# Altium schematic symbol library R 0603 1% YAGEO.SchLib: 250 symbols (part 2 of 3)
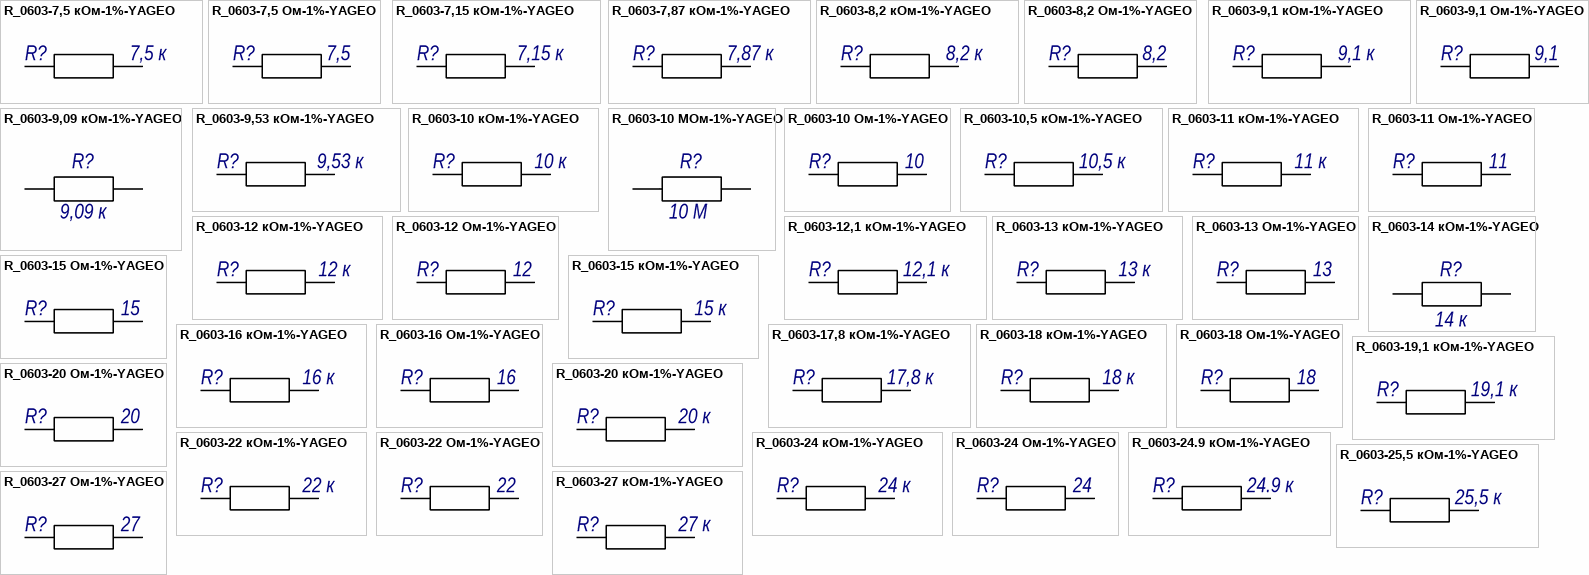
[diagram p7: symbols R_0603-7,5 кОм-1%-YAGEO to R_0603-27 Ом-1%-YAGEO]

## R_0603-27 Ом-1%-YAGEO
designator R?, comment value 27  (hidden comment: Резистор чип 0603-0,1 Вт-27 Ом ±1% фирма "YAGEO")
чип 0603-0,1 Вт-27 Ом ±1% фирма "YAGEO"; Power: 0,1 Вт; Tol: ± 1%; Manufacturer: фирма "YAGEO"; Name: Резистор; TYP: чип 0603; GOST: Резистор чип 0603-0,1 Вт-27 Ом ±1% фирма "YAGEO"
footprint R0603_H05M (Dim 1.6mm*0.8mm H=0.45mm)
pins: 1, 2
1 alternate drawing of the same symbol

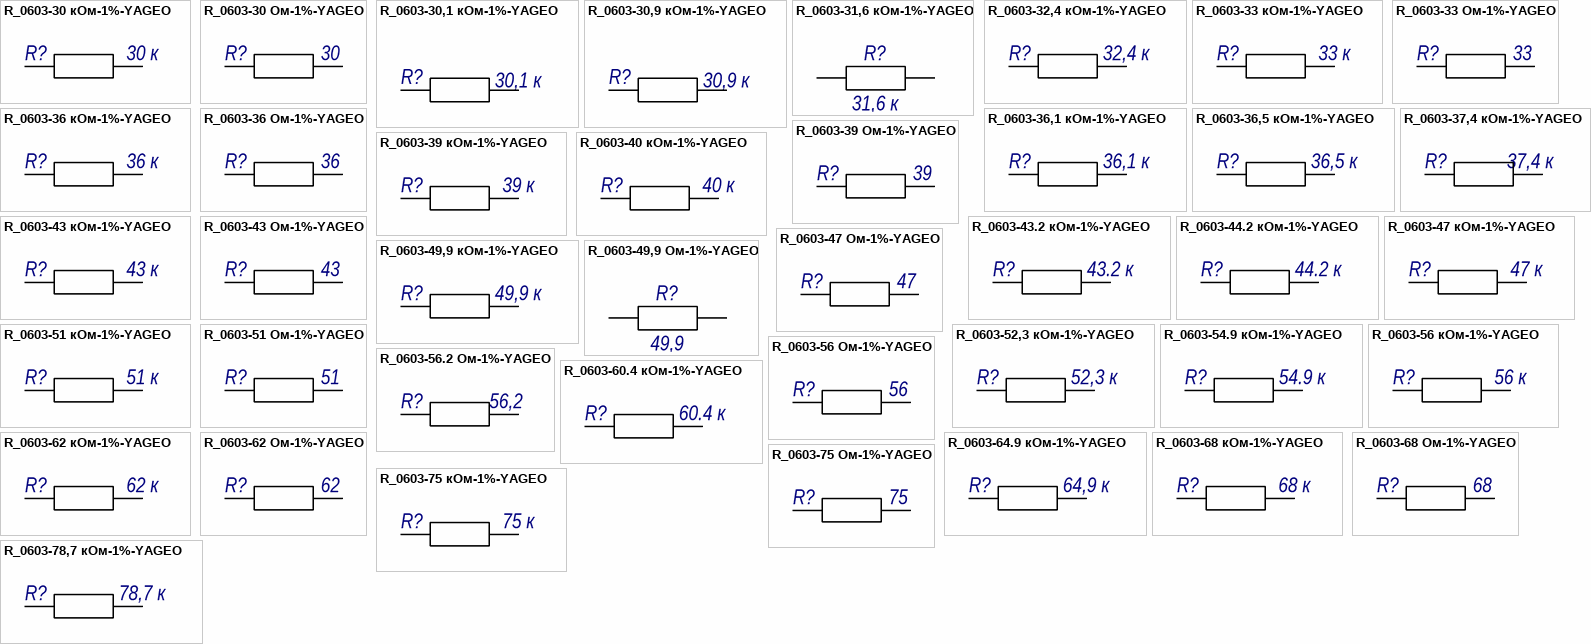
[diagram p3: symbols R_0603-30 кОм-1%-YAGEO to R_0603-78,7 кОм-1%-YAGEO]

## R_0603-30 кОм-1%-YAGEO
designator R?, comment value 30 к  (hidden comment: Резистор чип 0603-0,1 Вт-30 кОм ±1% фирма "YAGEO")
чип 0603-0,1 Вт-30 кОм ±1% фирма "YAGEO"; Power: 0,1 Вт; Tol: ± 1%; Manufacturer: фирма "YAGEO"; Name: Резистор; TYP: чип 0603; GOST: Резистор чип 0603-0,1 Вт-30 кОм ±1% фирма "YAGEO"
footprint R0603_H05M (Dim 1.6mm*0.8mm H=0.45mm)
pins: 1, 2
1 alternate drawing of the same symbol

## R_0603-30 Ом-1%-YAGEO
designator R?, comment value 30  (hidden comment: Резистор чип 0603-0,1 Вт-30 Ом ±1% фирма "YAGEO")
чип 0603-0,1 Вт-30 Ом ±1% фирма "YAGEO"; Power: 0,1 Вт; Tol: ± 1%; Manufacturer: фирма "YAGEO"; Name: Резистор; TYP: чип 0603; GOST: Резистор чип 0603-0,1 Вт-30 Ом ±1% фирма "YAGEO"
footprint R0603_H05M (Dim 1.6mm*0.8mm H=0.45mm)
pins: 1, 2
1 alternate drawing of the same symbol

## R_0603-30,1 кОм-1%-YAGEO
designator R?, comment value 30,1 к  (hidden comment: Резистор чип 0603-0,1 Вт-30,1 кОм ±1% фирма "YAGEO")
чип 0603-0,1 Вт-30,1 кОм ±1% фирма "YAGEO"; Power: 0,1 Вт; Tol: ± 1%; Manufacturer: фирма "YAGEO"; Name: Резистор; TYP: чип 0603; GOST: Резистор чип 0603-0,1 Вт-30,1 кОм ±1% фирма "YAGEO"
footprint R0603_H05M (Dim 1.6mm*0.8mm H=0.45mm)
pins: 1, 2
1 alternate drawing of the same symbol

## R_0603-30,9 кОм-1%-YAGEO
designator R?, comment value 30,9 к  (hidden comment: Резистор чип 0603-0,1 Вт-30,9 кОм ±1% фирма "YAGEO")
чип 0603-0,1 Вт-30,9 кОм ±1% фирма "YAGEO"; Power: 0,1 Вт; Tol: ± 1%; Manufacturer: фирма "YAGEO"; Name: Резистор; TYP: чип 0603; GOST: Резистор чип 0603-0,1 Вт-30,9 кОм ±1% фирма "YAGEO"
footprint R0603_H05M (Dim 1.6mm*0.8mm H=0.45mm)
pins: 1, 2
1 alternate drawing of the same symbol

## R_0603-31,6 кОм-1%-YAGEO
designator R?, comment value 31,6 к  (hidden comment: Резистор чип 0603-0,1 Вт-31,6 кОм ±1% фирма "YAGEO")
чип 0603-0,1 Вт-31,6 кОм ±1% фирма "YAGEO"; Power: 0,1 Вт; Tol: ± 1%; Manufacturer: фирма "YAGEO"; Name: Резистор; TYP: чип 0603; GOST: Резистор чип 0603-0,1 Вт-31,6 кОм ±1% фирма "YAGEO"
footprint R0603_H05M (Dim 1.6mm*0.8mm H=0.45mm)
pins: 1, 2
1 alternate drawing of the same symbol

## R_0603-32,4 кОм-1%-YAGEO
designator R?, comment value 32,4 к  (hidden comment: Резистор чип 0603-0,1 Вт-32,4 кОм ±1% фирма "YAGEO")
чип 0603-0,1 Вт-32,4 кОм ±1% фирма "YAGEO"; Power: 0,1 Вт; Tol: ± 1%; Manufacturer: фирма "YAGEO"; Name: Резистор; TYP: чип 0603; GOST: Резистор чип 0603-0,1 Вт-32,4 кОм ±1% фирма "YAGEO"
footprint R0603_H05M (Dim 1.6mm*0.8mm H=0.45mm)
pins: 1, 2
1 alternate drawing of the same symbol

## R_0603-33 кОм-1%-YAGEO
designator R?, comment value 33 к  (hidden comment: Резистор чип 0603-0,1 Вт-33 кОм ±1% фирма "YAGEO")
чип 0603-0,1 Вт-33 кОм ±1% фирма "YAGEO"; Power: 0,1 Вт; Tol: ± 1%; Manufacturer: фирма "YAGEO"; Name: Резистор; TYP: чип 0603; GOST: Резистор чип 0603-0,1 Вт-33 кОм ±1% фирма "YAGEO"
footprint R0603_H05M (Dim 1.6mm*0.8mm H=0.45mm)
pins: 1, 2
1 alternate drawing of the same symbol

## R_0603-33 Ом-1%-YAGEO
designator R?, comment value 33  (hidden comment: Резистор чип 0603-0,1 Вт-33 Ом ±1% фирма "YAGEO")
чип 0603-0,1 Вт-33 Ом ±1% фирма "YAGEO"; Power: 0,1 Вт; Tol: ± 1%; Manufacturer: фирма "YAGEO"; Name: Резистор; TYP: чип 0603; GOST: Резистор чип 0603-0,1 Вт-33 Ом ±1% фирма "YAGEO"
footprint R0603_H05M (Dim 1.6mm*0.8mm H=0.45mm)
pins: 1, 2
1 alternate drawing of the same symbol

## R_0603-36 кОм-1%-YAGEO
designator R?, comment value 36 к  (hidden comment: Резистор чип 0603-0,1 Вт-36 кОм ±1% фирма "YAGEO")
чип 0603-0,1 Вт-36 кОм ±1% фирма "YAGEO"; Power: 0,1 Вт; Tol: ± 1%; Manufacturer: фирма "YAGEO"; Name: Резистор; TYP: чип 0603; GOST: Резистор чип 0603-0,1 Вт-36 кОм ±1% фирма "YAGEO"
footprint R0603_H05M (Dim 1.6mm*0.8mm H=0.45mm)
pins: 1, 2
1 alternate drawing of the same symbol

## R_0603-36 Ом-1%-YAGEO
designator R?, comment value 36  (hidden comment: Резистор чип 0603-0,1 Вт-36 Ом ±1% фирма "YAGEO")
чип 0603-0,1 Вт-36 Ом ±1% фирма "YAGEO"; Power: 0,1 Вт; Tol: ± 1%; Manufacturer: фирма "YAGEO"; Name: Резистор; TYP: чип 0603; GOST: Резистор чип 0603-0,1 Вт-36 Ом ±1% фирма "YAGEO"
footprint R0603_H05M (Dim 1.6mm*0.8mm H=0.45mm)
pins: 1, 2
1 alternate drawing of the same symbol

## R_0603-36,1 кОм-1%-YAGEO
designator R?, comment value 36,1 к  (hidden comment: Резистор чип 0603-0,1 Вт-36,1 кОм ±1% фирма "YAGEO")
чип 0603-0,1 Вт-36,1 кОм ±1% фирма "YAGEO"; Power: 0,1 Вт; Tol: ± 1%; Manufacturer: фирма "YAGEO"; Name: Резистор; TYP: чип 0603; GOST: Резистор чип 0603-0,1 Вт-36,1 кОм ±1% фирма "YAGEO"
footprint R0603_H05M (Dim 1.6mm*0.8mm H=0.45mm)
pins: 1, 2
1 alternate drawing of the same symbol

## R_0603-36,5 кОм-1%-YAGEO
designator R?, comment value 36,5 к  (hidden comment: Резистор чип 0603-0,1 Вт-36,5 кОм ±1% фирма "YAGEO")
чип 0603-0,1 Вт-36,5 кОм ±1% фирма "YAGEO"; Power: 0,1 Вт; Tol: ± 1%; Manufacturer: фирма "YAGEO"; Name: Резистор; TYP: чип 0603; GOST: Резистор чип 0603-0,1 Вт-36,5 кОм ±1% фирма "YAGEO"
footprint R0603_H05M (Dim 1.6mm*0.8mm H=0.45mm)
pins: 1, 2
1 alternate drawing of the same symbol

## R_0603-37,4 кОм-1%-YAGEO
designator R?, comment value 37,4 к  (hidden comment: Резистор чип 0603-0,1 Вт-37,4 кОм ±1% фирма "YAGEO")
чип 0603-0,1 Вт-37,4 кОм ±1% фирма "YAGEO"; Power: 0,1 Вт; Tol: ± 1%; Manufacturer: фирма "YAGEO"; Name: Резистор; TYP: чип 0603; GOST: Резистор чип 0603-0,1 Вт-37,4 кОм ±1% фирма "YAGEO"
footprint R0603_H05M (Dim 1.6mm*0.8mm H=0.45mm)
pins: 1, 2
1 alternate drawing of the same symbol

## R_0603-39 кОм-1%-YAGEO
designator R?, comment value 39 к  (hidden comment: Резистор чип 0603-0,1 Вт-39 кОм ±1% фирма "YAGEO")
чип 0603-0,1 Вт-39 кОм ±1% фирма "YAGEO"; Power: 0,1 Вт; Tol: ± 1%; Manufacturer: фирма "YAGEO"; Name: Резистор; TYP: чип 0603; GOST: Резистор чип 0603-0,1 Вт-39 кОм ±1% фирма "YAGEO"
footprint R0603_H05M (Dim 1.6mm*0.8mm H=0.45mm)
pins: 1, 2
1 alternate drawing of the same symbol

## R_0603-39 Ом-1%-YAGEO
designator R?, comment value 39  (hidden comment: Резистор чип 0603-0,1 Вт-39 Ом ±1% фирма "YAGEO")
чип 0603-0,1 Вт-39 Ом ±1% фирма "YAGEO"; Power: 0,1 Вт; Tol: ± 1%; Manufacturer: фирма "YAGEO"; Name: Резистор; TYP: чип 0603; GOST: Резистор чип 0603-0,1 Вт-39 Ом ±1% фирма "YAGEO"
footprint R0603_H05M (Dim 1.6mm*0.8mm H=0.45mm)
pins: 1, 2
1 alternate drawing of the same symbol

## R_0603-40 кОм-1%-YAGEO
designator R?, comment value 40 к  (hidden comment: Резистор чип 0603-0,1 Вт-40 кОм ±1% фирма "YAGEO")
чип 0603-0,1 Вт-40 кОм ±1% фирма "YAGEO"; Power: 0,1 Вт; Tol: ± 1%; Manufacturer: фирма "YAGEO"; Name: Резистор; TYP: чип 0603; GOST: Резистор чип 0603-0,1 Вт-40 кОм ±1% фирма "YAGEO"
footprint R0603_H05M (Dim 1.6mm*0.8mm H=0.45mm)
pins: 1, 2
1 alternate drawing of the same symbol

## R_0603-43 кОм-1%-YAGEO
designator R?, comment value 43 к  (hidden comment: Резистор чип 0603-0,1 Вт-43 кОм ±1% фирма "YAGEO")
чип 0603-0,1 Вт-43 кОм ±1% фирма "YAGEO"; Power: 0,1 Вт; Tol: ± 1%; Manufacturer: фирма "YAGEO"; Name: Резистор; TYP: чип 0603; GOST: Резистор чип 0603-0,1 Вт-43 кОм ±1% фирма "YAGEO"
footprint R0603_H05M (Dim 1.6mm*0.8mm H=0.45mm)
pins: 1, 2
1 alternate drawing of the same symbol

## R_0603-43 Ом-1%-YAGEO
designator R?, comment value 43  (hidden comment: Резистор чип 0603-0,1 Вт-43 Ом ±1% фирма "YAGEO")
чип 0603-0,1 Вт-43 Ом ±1% фирма "YAGEO"; Power: 0,1 Вт; Tol: ± 1%; Manufacturer: фирма "YAGEO"; Name: Резистор; TYP: чип 0603; GOST: Резистор чип 0603-0,1 Вт-43 Ом ±1% фирма "YAGEO"
footprint R0603_H05M (Dim 1.6mm*0.8mm H=0.45mm)
pins: 1, 2
1 alternate drawing of the same symbol

## R_0603-43.2 кОм-1%-YAGEO
designator R?, comment value 43.2 к  (hidden comment: Резистор чип 0603-0,1 Вт-43.2 кОм ±1% фирма "YAGEO")
чип 0603-0,1 Вт-43.2 кОм ±1% фирма "YAGEO"; Power: 0,1 Вт; Tol: ± 1%; Manufacturer: фирма "YAGEO"; Name: Резистор; TYP: чип 0603; GOST: Резистор чип 0603-0,1 Вт-43.2 кОм ±1% фирма "YAGEO"
footprint R0603_H05M (Dim 1.6mm*0.8mm H=0.45mm)
pins: 1, 2
1 alternate drawing of the same symbol

## R_0603-44.2 кОм-1%-YAGEO
designator R?, comment value 44.2 к  (hidden comment: Резистор чип 0603-0,1 Вт-44.2 кОм ±1% фирма "YAGEO")
чип 0603-0,1 Вт-44.2 кОм ±1% фирма "YAGEO"; Power: 0,1 Вт; Tol: ± 1%; Manufacturer: фирма "YAGEO"; Name: Резистор; TYP: чип 0603; GOST: Резистор чип 0603-0,1 Вт-44.2 кОм ±1% фирма "YAGEO"
footprint R0603_H05M (Dim 1.6mm*0.8mm H=0.45mm)
pins: 1, 2
1 alternate drawing of the same symbol

## R_0603-47 кОм-1%-YAGEO
designator R?, comment value 47 к  (hidden comment: Резистор чип 0603-0,1 Вт-47 кОм ±1% фирма "YAGEO")
чип 0603-0,1 Вт-47 кОм ±1% фирма "YAGEO"; Power: 0,1 Вт; Tol: ± 1%; Manufacturer: фирма "YAGEO"; Name: Резистор; TYP: чип 0603; GOST: Резистор чип 0603-0,1 Вт-47 кОм ±1% фирма "YAGEO"
footprint R0603_H05M (Dim 1.6mm*0.8mm H=0.45mm)
pins: 1, 2
1 alternate drawing of the same symbol

## R_0603-47 Ом-1%-YAGEO
designator R?, comment value 47  (hidden comment: Резистор чип 0603-0,1 Вт-47 Ом ±1% фирма "YAGEO")
чип 0603-0,1 Вт-47 Ом ±1% фирма "YAGEO"; Power: 0,1 Вт; Tol: ± 1%; Manufacturer: фирма "YAGEO"; Name: Резистор; TYP: чип 0603; GOST: Резистор чип 0603-0,1 Вт-47 Ом ±1% фирма "YAGEO"
footprint R0603_H05M (Dim 1.6mm*0.8mm H=0.45mm)
pins: 1, 2
1 alternate drawing of the same symbol

## R_0603-49,9 кОм-1%-YAGEO
designator R?, comment value 49,9 к  (hidden comment: Резистор чип 0603-0,1 Вт-49,9 кОм ±1% фирма "YAGEO")
чип 0603-0,1 Вт-49,9 кОм ±1% фирма "YAGEO"; Power: 0,1 Вт; Tol: ± 1%; Manufacturer: фирма "YAGEO"; Name: Резистор; TYP: чип 0603; GOST: Резистор чип 0603-0,1 Вт-49,9 кОм ±1% фирма "YAGEO"
footprint R0603_H05M (Dim 1.6mm*0.8mm H=0.45mm)
pins: 1, 2
1 alternate drawing of the same symbol

## R_0603-49,9 Ом-1%-YAGEO
designator R?, comment value 49,9  (hidden comment: Резистор чип 0603-0,1 Вт-49,9 Ом ±1% фирма "YAGEO")
чип 0603-0,1 Вт-49,9 Ом ±1% фирма "YAGEO"; Power: 0,1 Вт; Tol: ± 1%; Manufacturer: фирма "YAGEO"; Name: Резистор; TYP: чип 0603; GOST: Резистор чип 0603-0,1 Вт-49,9 Ом ±1% фирма "YAGEO"
footprint R0603_H05M (Dim 1.6mm*0.8mm H=0.45mm)
pins: 1, 2
1 alternate drawing of the same symbol

## R_0603-51 кОм-1%-YAGEO
designator R?, comment value 51 к  (hidden comment: Резистор чип 0603-0,1 Вт-51 кОм ±1% фирма "YAGEO")
чип 0603-0,1 Вт-51 кОм ±1% фирма "YAGEO"; Power: 0,1 Вт; Tol: ± 1%; Manufacturer: фирма "YAGEO"; Name: Резистор; TYP: чип 0603; GOST: Резистор чип 0603-0,1 Вт-51 кОм ±1% фирма "YAGEO"
footprint R0603_H05M (Dim 1.6mm*0.8mm H=0.45mm)
pins: 1, 2
1 alternate drawing of the same symbol

## R_0603-51 Ом-1%-YAGEO
designator R?, comment value 51  (hidden comment: Резистор чип 0603-0,1 Вт-51 Ом ±1% фирма "YAGEO")
чип 0603-0,1 Вт-51 Ом ±1% фирма "YAGEO"; Power: 0,1 Вт; Tol: ± 1%; Manufacturer: фирма "YAGEO"; Name: Резистор; TYP: чип 0603; GOST: Резистор чип 0603-0,1 Вт-51 Ом ±1% фирма "YAGEO"
footprint R0603_H05M (Dim 1.6mm*0.8mm H=0.45mm)
pins: 1, 2
1 alternate drawing of the same symbol

## R_0603-52,3 кОм-1%-YAGEO
designator R?, comment value 52,3 к  (hidden comment: Резистор чип 0603-0,1 Вт-52,3 кОм ±1% фирма "YAGEO")
чип 0603-0,1 Вт-52,3 кОм ±1% фирма "YAGEO"; Power: 0,1 Вт; Tol: ± 1%; Manufacturer: фирма "YAGEO"; Name: Резистор; TYP: чип 0603; GOST: Резистор чип 0603-0,1 Вт-52,3 кОм ±1% фирма "YAGEO"
footprint R0603_H05M (Dim 1.6mm*0.8mm H=0.45mm)
pins: 1, 2
1 alternate drawing of the same symbol

## R_0603-54.9 кОм-1%-YAGEO
designator R?, comment value 54.9 к  (hidden comment: Резистор чип 0603-0,1 Вт-54.9 кОм ±1% фирма "YAGEO")
чип 0603-0,1 Вт-54.9 кОм ±1% фирма "YAGEO"; Power: 0,1 Вт; Tol: ± 1%; Manufacturer: фирма "YAGEO"; Name: Резистор; TYP: чип 0603; GOST: Резистор чип 0603-0,1 Вт-54.9 кОм ±1% фирма "YAGEO"
footprint R0603_H05M (Dim 1.6mm*0.8mm H=0.45mm)
pins: 1, 2
1 alternate drawing of the same symbol

## R_0603-56 кОм-1%-YAGEO
designator R?, comment value 56 к  (hidden comment: Резистор чип 0603-0,1 Вт-56 кОм ±1% фирма "YAGEO")
чип 0603-0,1 Вт-56 кОм ±1% фирма "YAGEO"; Power: 0,1 Вт; Tol: ± 1%; Manufacturer: фирма "YAGEO"; Name: Резистор; TYP: чип 0603; GOST: Резистор чип 0603-0,1 Вт-56 кОм ±1% фирма "YAGEO"
footprint R0603_H05M (Dim 1.6mm*0.8mm H=0.45mm)
pins: 1, 2
1 alternate drawing of the same symbol

## R_0603-56 Ом-1%-YAGEO
designator R?, comment value 56  (hidden comment: Резистор чип 0603-0,1 Вт-56 Ом ±1% фирма "YAGEO")
чип 0603-0,1 Вт-56 Ом ±1% фирма "YAGEO"; Power: 0,1 Вт; Tol: ± 1%; Manufacturer: фирма "YAGEO"; Name: Резистор; TYP: чип 0603; GOST: Резистор чип 0603-0,1 Вт-56 Ом ±1% фирма "YAGEO"
footprint R0603_H05M (Dim 1.6mm*0.8mm H=0.45mm)
pins: 1, 2
1 alternate drawing of the same symbol

## R_0603-56.2 Ом-1%-YAGEO
designator R?, comment value 56,2  (hidden comment: Резистор чип 0603-0,1 Вт-56,2 Ом ±1% фирма "YAGEO")
чип 0603-0,1 Вт-56.2 Ом ±1% фирма "YAGEO"; Power: 0,1 Вт; Tol: ± 1%; Manufacturer: фирма "YAGEO"; Name: Резистор; TYP: чип 0603; GOST: Резистор чип 0603-0,1 Вт-56,2 Ом ±1% фирма "YAGEO"
footprint R0603_H05M (Dim 1.6mm*0.8mm H=0.45mm)
pins: 1, 2
1 alternate drawing of the same symbol

## R_0603-60.4 кОм-1%-YAGEO
designator R?, comment value 60.4 к  (hidden comment: Резистор чип 0603-0,1 Вт-60.4 кОм ±1% фирма "YAGEO")
чип 0603-0,1 Вт-60.4 кОм ±1% фирма "YAGEO"; Power: 0,1 Вт; Tol: ± 1%; Manufacturer: фирма "YAGEO"; Name: Резистор; TYP: чип 0603; GOST: Резистор чип 0603-0,1 Вт-60.4 кОм ±1% фирма "YAGEO"
footprint R0603_H05M (Dim 1.6mm*0.8mm H=0.45mm)
pins: 1, 2
1 alternate drawing of the same symbol

## R_0603-62 кОм-1%-YAGEO
designator R?, comment value 62 к  (hidden comment: Резистор чип 0603-0,1 Вт-62 кОм ±1% фирма "YAGEO")
чип 0603-0,1 Вт-62 кОм ±1% фирма "YAGEO"; Power: 0,1 Вт; Tol: ± 1%; Manufacturer: фирма "YAGEO"; Name: Резистор; TYP: чип 0603; GOST: Резистор чип 0603-0,1 Вт-62 кОм ±1% фирма "YAGEO"
footprint R0603_H05M (Dim 1.6mm*0.8mm H=0.45mm)
pins: 1, 2
1 alternate drawing of the same symbol

## R_0603-62 Ом-1%-YAGEO
designator R?, comment value 62  (hidden comment: Резистор чип 0603-0,1 Вт-62 Ом ±1% фирма "YAGEO")
чип 0603-0,1 Вт-62 Ом ±1% фирма "YAGEO"; Power: 0,1 Вт; Tol: ± 1%; Manufacturer: фирма "YAGEO"; Name: Резистор; TYP: чип 0603; GOST: Резистор чип 0603-0,1 Вт-62 Ом ±1% фирма "YAGEO"
footprint R0603_H05M (Dim 1.6mm*0.8mm H=0.45mm)
pins: 1, 2
1 alternate drawing of the same symbol

## R_0603-64.9 кОм-1%-YAGEO
designator R?, comment value 64,9 к  (hidden comment: Резистор чип 0603-0,1 Вт-64.9 кОм ±1% фирма "YAGEO")
чип 0603-0,1 Вт-64.9 кОм ±1% фирма "YAGEO"; Power: 0,1 Вт; Tol: ± 1%; Manufacturer: фирма "YAGEO"; Name: Резистор; TYP: чип 0603; GOST: Резистор чип 0603-0,1 Вт-64.9 кОм ±1% фирма "YAGEO"
footprint R0603_H05M (Dim 1.6mm*0.8mm H=0.45mm)
pins: 1, 2
1 alternate drawing of the same symbol

## R_0603-68 кОм-1%-YAGEO
designator R?, comment value 68 к  (hidden comment: Резистор чип 0603-0,1 Вт-68 кОм ±1% фирма "YAGEO")
чип 0603-0,1 Вт-68 кОм ±1% фирма "YAGEO"; Power: 0,1 Вт; Tol: ± 1%; Manufacturer: фирма "YAGEO"; Name: Резистор; TYP: чип 0603; GOST: Резистор чип 0603-0,1 Вт-68 кОм ±1% фирма "YAGEO"
footprint R0603_H05M (Dim 1.6mm*0.8mm H=0.45mm)
pins: 1, 2
1 alternate drawing of the same symbol

## R_0603-68 Ом-1%-YAGEO
designator R?, comment value 68  (hidden comment: Резистор чип 0603-0,1 Вт-68 Ом ±1% фирма "YAGEO")
чип 0603-0,1 Вт-68 Ом ±1% фирма "YAGEO"; Power: 0,1 Вт; Tol: ± 1%; Manufacturer: фирма "YAGEO"; Name: Резистор; TYP: чип 0603; GOST: Резистор чип 0603-0,1 Вт-68 Ом ±1% фирма "YAGEO"
footprint R0603_H05M (Dim 1.6mm*0.8mm H=0.45mm)
pins: 1, 2
1 alternate drawing of the same symbol

## R_0603-75 кОм-1%-YAGEO
designator R?, comment value 75 к  (hidden comment: Резистор чип 0603-0,1 Вт-75 кОм ±1% фирма "YAGEO")
чип 0603-0,1 Вт-75 кОм ±1% фирма "YAGEO"; Power: 0,1 Вт; Tol: ± 1%; Manufacturer: фирма "YAGEO"; Name: Резистор; TYP: чип 0603; GOST: Резистор чип 0603-0,1 Вт-75 кОм ±1% фирма "YAGEO"
footprint R0603_H05M (Dim 1.6mm*0.8mm H=0.45mm)
pins: 1, 2
1 alternate drawing of the same symbol

## R_0603-75 Ом-1%-YAGEO
designator R?, comment value 75  (hidden comment: Резистор чип 0603-0,1 Вт-75 Ом ±1% фирма "YAGEO")
чип 0603-0,1 Вт-75 Ом ±1% фирма "YAGEO"; Power: 0,1 Вт; Tol: ± 1%; Manufacturer: фирма "YAGEO"; Name: Резистор; TYP: чип 0603; GOST: Резистор чип 0603-0,1 Вт-75 Ом ±1% фирма "YAGEO"
footprint R0603_H05M (Dim 1.6mm*0.8mm H=0.45mm)
pins: 1, 2
1 alternate drawing of the same symbol

## R_0603-78,7 кОм-1%-YAGEO
designator R?, comment value 78,7 к  (hidden comment: Резистор чип 0603-0,1 Вт-78,7 кОм ±1% фирма "YAGEO")
чип 0603-0,1 Вт-78,7 кОм ±1% фирма "YAGEO"; Power: 0,1 Вт; Tol: ± 1%; Manufacturer: фирма "YAGEO"; Name: Резистор; TYP: чип 0603; GOST: Резистор чип 0603-0,1 Вт-78,7 кОм ±1% фирма "YAGEO"
footprint R0603_H05M (Dim 1.6mm*0.8mm H=0.45mm)
pins: 1, 2
1 alternate drawing of the same symbol

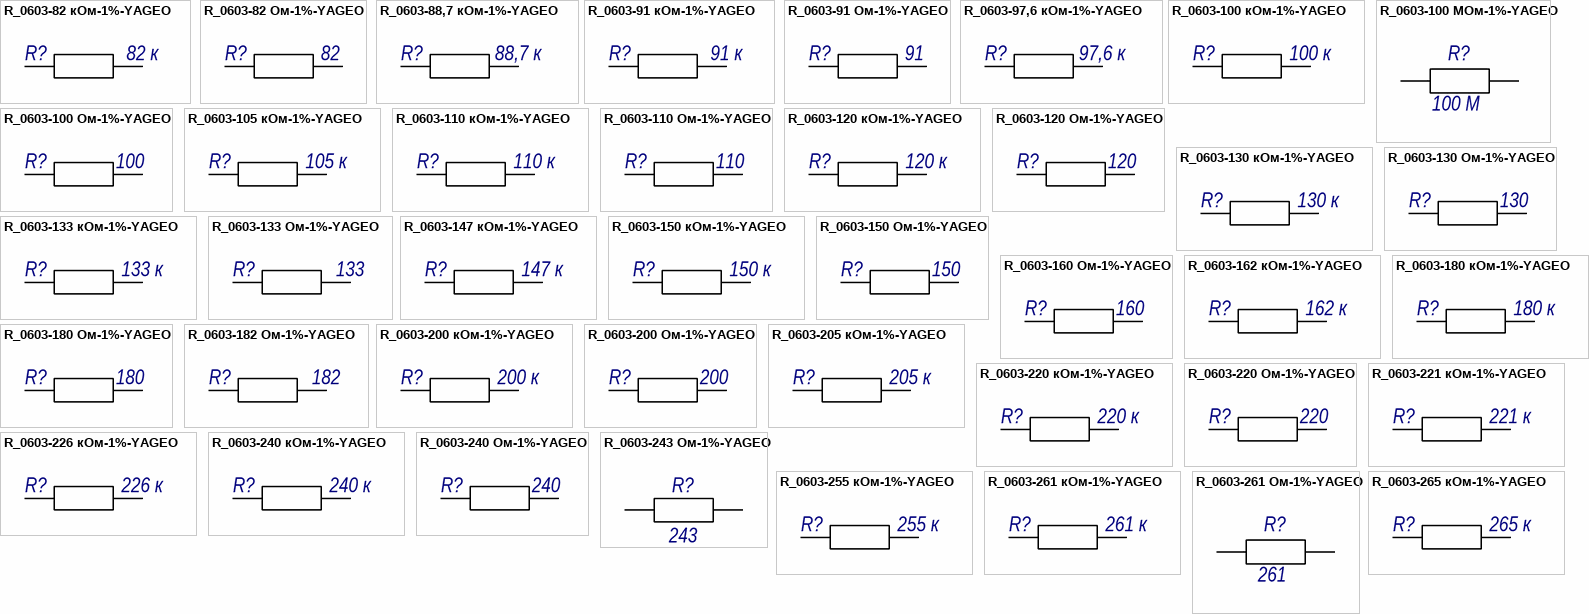
[diagram p4: symbols R_0603-82 кОм-1%-YAGEO to R_0603-265 кОм-1%-YAGEO]

## R_0603-82 кОм-1%-YAGEO
designator R?, comment value 82 к  (hidden comment: Резистор чип 0603-0,1 Вт-82 кОм ±1% фирма "YAGEO")
чип 0603-0,1 Вт-82 кОм ±1% фирма "YAGEO"; Power: 0,1 Вт; Tol: ± 1%; Manufacturer: фирма "YAGEO"; Name: Резистор; TYP: чип 0603; GOST: Резистор чип 0603-0,1 Вт-82 кОм ±1% фирма "YAGEO"
footprint R0603_H05M (Dim 1.6mm*0.8mm H=0.45mm)
pins: 1, 2
1 alternate drawing of the same symbol

## R_0603-82 Ом-1%-YAGEO
designator R?, comment value 82  (hidden comment: Резистор чип 0603-0,1 Вт-82 Ом ±1% фирма "YAGEO")
чип 0603-0,1 Вт-82 Ом ±1% фирма "YAGEO"; Power: 0,1 Вт; Tol: ± 1%; Manufacturer: фирма "YAGEO"; Name: Резистор; TYP: чип 0603; GOST: Резистор чип 0603-0,1 Вт-82 Ом ±1% фирма "YAGEO"
footprint R0603_H05M (Dim 1.6mm*0.8mm H=0.45mm)
pins: 1, 2
1 alternate drawing of the same symbol

## R_0603-88,7 кОм-1%-YAGEO
designator R?, comment value 88,7 к  (hidden comment: Резистор чип 0603-0,1 Вт-88,7 кОм ±1% фирма "YAGEO")
чип 0603-0,1 Вт-88,7 кОм ±1% фирма "YAGEO"; Power: 0,1 Вт; Tol: ± 1%; Manufacturer: фирма "YAGEO"; Name: Резистор; TYP: чип 0603; GOST: Резистор чип 0603-0,1 Вт-88,7 кОм ±1% фирма "YAGEO"
footprint R0603_H05M (Dim 1.6mm*0.8mm H=0.45mm)
pins: 1, 2
1 alternate drawing of the same symbol

## R_0603-91 кОм-1%-YAGEO
designator R?, comment value 91 к  (hidden comment: Резистор чип 0603-0,1 Вт-91 кОм ±1% фирма "YAGEO")
чип 0603-0,1 Вт-91 кОм ±1% фирма "YAGEO"; Power: 0,1 Вт; Tol: ± 1%; Manufacturer: фирма "YAGEO"; Name: Резистор; TYP: чип 0603; GOST: Резистор чип 0603-0,1 Вт-91 кОм ±1% фирма "YAGEO"
footprint R0603_H05M (Dim 1.6mm*0.8mm H=0.45mm)
pins: 1, 2
1 alternate drawing of the same symbol

## R_0603-91 Ом-1%-YAGEO
designator R?, comment value 91  (hidden comment: Резистор чип 0603-0,1 Вт-91 Ом ±1% фирма "YAGEO")
чип 0603-0,1 Вт-91 Ом ±1% фирма "YAGEO"; Power: 0,1 Вт; Tol: ± 1%; Manufacturer: фирма "YAGEO"; Name: Резистор; TYP: чип 0603; GOST: Резистор чип 0603-0,1 Вт-91 Ом ±1% фирма "YAGEO"
footprint R0603_H05M (Dim 1.6mm*0.8mm H=0.45mm)
pins: 1, 2
1 alternate drawing of the same symbol

## R_0603-97,6 кОм-1%-YAGEO
designator R?, comment value 97,6 к  (hidden comment: Резистор чип 0603-0,1 Вт-97,6 кОм ±1% фирма "YAGEO")
чип 0603-0,1 Вт-97,6 кОм ±1% фирма "YAGEO"; Power: 0,1 Вт; Tol: ± 1%; Manufacturer: фирма "YAGEO"; Name: Резистор; TYP: чип 0603; GOST: Резистор чип 0603-0,1 Вт-97,6 кОм ±1% фирма "YAGEO"
footprint R0603_H05M (Dim 1.6mm*0.8mm H=0.45mm)
pins: 1, 2
1 alternate drawing of the same symbol

## R_0603-100 кОм-1%-YAGEO
designator R?, comment value 100 к  (hidden comment: Резистор чип 0603-0,1 Вт-100 кОм ±1% фирма "YAGEO")
чип 0603-0,1 Вт-100 кОм ±1% фирма "YAGEO"; Power: 0,1 Вт; Tol: ± 1%; Manufacturer: фирма "YAGEO"; Name: Резистор; TYP: чип 0603; GOST: Резистор чип 0603-0,1 Вт-100 кОм ±1% фирма "YAGEO"
footprint R0603_H05M (Dim 1.6mm*0.8mm H=0.45mm)
pins: 1, 2
1 alternate drawing of the same symbol

## R_0603-100 МОм-1%-YAGEO
designator R?, comment value 100 М  (hidden comment: Резистор чип 0603-0,1 Вт-100 МОм ±1% фирма "YAGEO")
чип 0603-0,1 Вт-100 МОм ±1% фирма "YAGEO"; Power: 0,1 Вт; Tol: ± 1%; Manufacturer: фирма "YAGEO"; Name: Резистор; TYP: чип 0603; GOST: Резистор чип 0603-0,1 Вт-100 МОм ±1% фирма "YAGEO"
footprint R0603_H05M (Dim 1.6mm*0.8mm H=0.45mm)
pins: 1, 2
1 alternate drawing of the same symbol

## R_0603-100 Ом-1%-YAGEO
designator R?, comment value 100  (hidden comment: Резистор чип 0603-0,1 Вт-100 Ом ±1% фирма "YAGEO")
чип 0603-0,1 Вт-100 Ом ±1% фирма "YAGEO"; Power: 0,1 Вт; Tol: ± 1%; Manufacturer: фирма "YAGEO"; Name: Резистор; TYP: чип 0603; GOST: Резистор чип 0603-0,1 Вт-100 Ом ±1% фирма "YAGEO"
footprint R0603_H05M (Dim 1.6mm*0.8mm H=0.45mm)
pins: 1, 2
1 alternate drawing of the same symbol

## R_0603-105 кОм-1%-YAGEO
designator R?, comment value 105 к  (hidden comment: Резистор чип 0603-0,1 Вт-105 кОм ±1% фирма "YAGEO")
чип 0603-0,1 Вт-105 кОм ±1% фирма "YAGEO"; Power: 0,1 Вт; Tol: ± 1%; Manufacturer: фирма "YAGEO"; Name: Резистор; TYP: чип 0603; GOST: Резистор чип 0603-0,1 Вт-105 кОм ±1% фирма "YAGEO"
footprint R0603_H05M (Dim 1.6mm*0.8mm H=0.45mm)
pins: 1, 2
1 alternate drawing of the same symbol

## R_0603-110 кОм-1%-YAGEO
designator R?, comment value 110 к  (hidden comment: Резистор чип 0603-0,1 Вт-110 кОм ±1% фирма "YAGEO")
чип 0603-0,1 Вт-110 кОм ±1% фирма "YAGEO"; Power: 0,1 Вт; Tol: ± 1%; Manufacturer: фирма "YAGEO"; Name: Резистор; TYP: чип 0603; GOST: Резистор чип 0603-0,1 Вт-110 кОм ±1% фирма "YAGEO"
footprint R0603_H05M (Dim 1.6mm*0.8mm H=0.45mm)
pins: 1, 2
1 alternate drawing of the same symbol

## R_0603-110 Ом-1%-YAGEO
designator R?, comment value 110  (hidden comment: Резистор чип 0603-0,1 Вт-110 Ом ±1% фирма "YAGEO")
чип 0603-0,1 Вт-110 Ом ±1% фирма "YAGEO"; Power: 0,1 Вт; Tol: ± 1%; Manufacturer: фирма "YAGEO"; Name: Резистор; TYP: чип 0603; GOST: Резистор чип 0603-0,1 Вт-110 Ом ±1% фирма "YAGEO"
footprint R0603_H05M (Dim 1.6mm*0.8mm H=0.45mm)
pins: 1, 2
1 alternate drawing of the same symbol

## R_0603-120 кОм-1%-YAGEO
designator R?, comment value 120 к  (hidden comment: Резистор чип 0603-0,1 Вт-120 кОм ±1% фирма "YAGEO")
чип 0603-0,1 Вт-120 кОм ±1% фирма "YAGEO"; Power: 0,1 Вт; Tol: ± 1%; Manufacturer: фирма "YAGEO"; Name: Резистор; TYP: чип 0603; GOST: Резистор чип 0603-0,1 Вт-120 кОм ±1% фирма "YAGEO"
footprint R0603_H05M (Dim 1.6mm*0.8mm H=0.45mm)
pins: 1, 2
1 alternate drawing of the same symbol

## R_0603-120 Ом-1%-YAGEO
designator R?, comment value 120  (hidden comment: Резистор чип 0603-0,1 Вт-120 Ом ±1% фирма "YAGEO")
чип 0603-0,1 Вт-120 Ом ±1% фирма "YAGEO"; Power: 0,1 Вт; Tol: ± 1%; Manufacturer: фирма "YAGEO"; Name: Резистор; TYP: чип 0603; GOST: Резистор чип 0603-0,1 Вт-120 Ом ±1% фирма "YAGEO"
footprint R0603_H05M (Dim 1.6mm*0.8mm H=0.45mm)
pins: 1, 2
1 alternate drawing of the same symbol

## R_0603-130 кОм-1%-YAGEO
designator R?, comment value 130 к  (hidden comment: Резистор чип 0603-0,1 Вт-130 кОм ±1% фирма "YAGEO")
чип 0603-0,1 Вт-130 кОм ±1% фирма "YAGEO"; Power: 0,1 Вт; Tol: ± 1%; Manufacturer: фирма "YAGEO"; Name: Резистор; TYP: чип 0603; GOST: Резистор чип 0603-0,1 Вт-130 кОм ±1% фирма "YAGEO"
footprint R0603_H05M (Dim 1.6mm*0.8mm H=0.45mm)
pins: 1, 2
1 alternate drawing of the same symbol

## R_0603-130 Ом-1%-YAGEO
designator R?, comment value 130  (hidden comment: Резистор чип 0603-0,1 Вт-130 Ом ±1% фирма "YAGEO")
чип 0603-0,1 Вт-130 Ом ±1% фирма "YAGEO"; Power: 0,1 Вт; Tol: ± 1%; Manufacturer: фирма "YAGEO"; Name: Резистор; TYP: чип 0603; GOST: Резистор чип 0603-0,1 Вт-130 Ом ±1% фирма "YAGEO"
footprint R0603_H05M (Dim 1.6mm*0.8mm H=0.45mm)
pins: 1, 2
1 alternate drawing of the same symbol

## R_0603-133 кОм-1%-YAGEO
designator R?, comment value 133 к  (hidden comment: Резистор чип 0603-0,1 Вт-133 кОм ±1% фирма "YAGEO")
чип 0603-0,1 Вт-133 кОм ±1% фирма "YAGEO"; Power: 0,1 Вт; Tol: ± 1%; Manufacturer: фирма "YAGEO"; Name: Резистор; TYP: чип 0603; GOST: Резистор чип 0603-0,1 Вт-133 кОм ±1% фирма "YAGEO"
footprint R0603_H05M (Dim 1.6mm*0.8mm H=0.45mm)
pins: 1, 2
1 alternate drawing of the same symbol

## R_0603-133 Ом-1%-YAGEO
designator R?, comment value 133  (hidden comment: Резистор чип 0603-0,1 Вт-133 Ом ±1% фирма "YAGEO")
чип 0603-0,1 Вт-133 Ом ±1% фирма "YAGEO"; Power: 0,1 Вт; Tol: ± 1%; Manufacturer: фирма "YAGEO"; Name: Резистор; TYP: чип 0603; GOST: Резистор чип 0603-0,1 Вт-133 Ом ±1% фирма "YAGEO"
footprint R0603_H05M (Dim 1.6mm*0.8mm H=0.45mm)
pins: 1, 2
1 alternate drawing of the same symbol

## R_0603-147 кОм-1%-YAGEO
designator R?, comment value 147 к  (hidden comment: Резистор чип 0603-0,1 Вт-147 кОм ±1% фирма "YAGEO")
чип 0603-0,1 Вт-147 кОм ±1% фирма "YAGEO"; Power: 0,1 Вт; Tol: ± 1%; Manufacturer: фирма "YAGEO"; Name: Резистор; TYP: чип 0603; GOST: Резистор чип 0603-0,1 Вт-147 кОм ±1% фирма "YAGEO"
footprint R0603_H05M (Dim 1.6mm*0.8mm H=0.45mm)
pins: 1, 2
1 alternate drawing of the same symbol

## R_0603-150 кОм-1%-YAGEO
designator R?, comment value 150 к  (hidden comment: Резистор чип 0603-0,1 Вт-150 кОм ±1% фирма "YAGEO")
чип 0603-0,1 Вт-150 кОм ±1% фирма "YAGEO"; Power: 0,1 Вт; Tol: ± 1%; Manufacturer: фирма "YAGEO"; Name: Резистор; TYP: чип 0603; GOST: Резистор чип 0603-0,1 Вт-150 кОм ±1% фирма "YAGEO"
footprint R0603_H05M (Dim 1.6mm*0.8mm H=0.45mm)
pins: 1, 2
1 alternate drawing of the same symbol

## R_0603-150 Ом-1%-YAGEO
designator R?, comment value 150  (hidden comment: Резистор чип 0603-0,1 Вт-150 Ом ±1% фирма "YAGEO")
чип 0603-0,1 Вт-150 Ом ±1% фирма "YAGEO"; Power: 0,1 Вт; Tol: ± 1%; Manufacturer: фирма "YAGEO"; Name: Резистор; TYP: чип 0603; GOST: Резистор чип 0603-0,1 Вт-150 Ом ±1% фирма "YAGEO"
footprint R0603_H05M (Dim 1.6mm*0.8mm H=0.45mm)
pins: 1, 2
1 alternate drawing of the same symbol

## R_0603-160 Ом-1%-YAGEO
designator R?, comment value 160  (hidden comment: Резистор чип 0603-0,1 Вт-160 Ом ±1% фирма "YAGEO")
чип 0603-0,1 Вт-160 Ом ±1% фирма "YAGEO"; Power: 0,1 Вт; Tol: ± 1%; Manufacturer: фирма "YAGEO"; Name: Резистор; TYP: чип 0603; GOST: Резистор чип 0603-0,1 Вт-160 Ом ±1% фирма "YAGEO"
footprint R0603_H05M (Dim 1.6mm*0.8mm H=0.45mm)
pins: 1, 2
1 alternate drawing of the same symbol

## R_0603-162 кОм-1%-YAGEO
designator R?, comment value 162 к  (hidden comment: Резистор чип 0603-0,1 Вт-162 кОм ±1% фирма "YAGEO")
чип 0603-0,1 Вт-162 кОм ±1% фирма "YAGEO"; Power: 0,1 Вт; Tol: ± 1%; Manufacturer: фирма "YAGEO"; Name: Резистор; TYP: чип 0603; GOST: Резистор чип 0603-0,1 Вт-162 кОм ±1% фирма "YAGEO"
footprint R0603_H05M (Dim 1.6mm*0.8mm H=0.45mm)
pins: 1, 2
1 alternate drawing of the same symbol

## R_0603-180 кОм-1%-YAGEO
designator R?, comment value 180 к  (hidden comment: Резистор чип 0603-0,1 Вт-180 кОм ±1% фирма "YAGEO")
чип 0603-0,1 Вт-180 кОм ±1% фирма "YAGEO"; Power: 0,1 Вт; Tol: ± 1%; Manufacturer: фирма "YAGEO"; Name: Резистор; TYP: чип 0603; GOST: Резистор чип 0603-0,1 Вт-180 кОм ±1% фирма "YAGEO"
footprint R0603_H05M (Dim 1.6mm*0.8mm H=0.45mm)
pins: 1, 2
1 alternate drawing of the same symbol

## R_0603-180 Ом-1%-YAGEO
designator R?, comment value 180  (hidden comment: Резистор чип 0603-0,1 Вт-180 Ом ±1% фирма "YAGEO")
чип 0603-0,1 Вт-180 Ом ±1% фирма "YAGEO"; Power: 0,1 Вт; Tol: ± 1%; Manufacturer: фирма "YAGEO"; Name: Резистор; TYP: чип 0603; GOST: Резистор чип 0603-0,1 Вт-180 Ом ±1% фирма "YAGEO"
footprint R0603_H05M (Dim 1.6mm*0.8mm H=0.45mm)
pins: 1, 2
1 alternate drawing of the same symbol

## R_0603-182 Ом-1%-YAGEO
designator R?, comment value 182  (hidden comment: Резистор чип 0603-0,1 Вт-182 Ом ±1% фирма "YAGEO")
чип 0603-0,1 Вт-182 Ом ±1% фирма "YAGEO"; Power: 0,1 Вт; Tol: ± 1%; Manufacturer: фирма "YAGEO"; Name: Резистор; TYP: чип 0603; GOST: Резистор чип 0603-0,1 Вт-182 Ом ±1% фирма "YAGEO"
footprint R0603_H05M (Dim 1.6mm*0.8mm H=0.45mm)
pins: 1, 2
1 alternate drawing of the same symbol

## R_0603-200 кОм-1%-YAGEO
designator R?, comment value 200 к  (hidden comment: Резистор чип 0603-0,1 Вт-200 кОм ±1% фирма "YAGEO")
чип 0603-0,1 Вт-200 кОм ±1% фирма "YAGEO"; Power: 0,1 Вт; Tol: ± 1%; Manufacturer: фирма "YAGEO"; Name: Резистор; TYP: чип 0603; GOST: Резистор чип 0603-0,1 Вт-200 кОм ±1% фирма "YAGEO"
footprint R0603_H05M (Dim 1.6mm*0.8mm H=0.45mm)
pins: 1, 2
1 alternate drawing of the same symbol

## R_0603-200 Ом-1%-YAGEO
designator R?, comment value 200  (hidden comment: Резистор чип 0603-0,1 Вт-200 Ом ±1% фирма "YAGEO")
чип 0603-0,1 Вт-200 Ом ±1% фирма "YAGEO"; Power: 0,1 Вт; Tol: ± 1%; Manufacturer: фирма "YAGEO"; Name: Резистор; TYP: чип 0603; GOST: Резистор чип 0603-0,1 Вт-200 Ом ±1% фирма "YAGEO"
footprint R0603_H05M (Dim 1.6mm*0.8mm H=0.45mm)
pins: 1, 2
1 alternate drawing of the same symbol

## R_0603-205 кОм-1%-YAGEO
designator R?, comment value 205 к  (hidden comment: Резистор чип 0603-0,1 Вт-205 кОм ±1% фирма "YAGEO")
чип 0603-0,1 Вт-205 кОм ±1% фирма "YAGEO"; Power: 0,1 Вт; Tol: ± 1%; Manufacturer: фирма "YAGEO"; Name: Резистор; TYP: чип 0603; GOST: Резистор чип 0603-0,1 Вт-205 кОм ±1% фирма "YAGEO"
footprint R0603_H05M (Dim 1.6mm*0.8mm H=0.45mm)
pins: 1, 2
1 alternate drawing of the same symbol

## R_0603-220 кОм-1%-YAGEO
designator R?, comment value 220 к  (hidden comment: Резистор чип 0603-0,1 Вт-220 кОм ±1% фирма "YAGEO")
чип 0603-0,1 Вт-220 кОм ±1% фирма "YAGEO"; Power: 0,1 Вт; Tol: ± 1%; Manufacturer: фирма "YAGEO"; Name: Резистор; TYP: чип 0603; GOST: Резистор чип 0603-0,1 Вт-220 кОм ±1% фирма "YAGEO"
footprint R0603_H05M (Dim 1.6mm*0.8mm H=0.45mm)
pins: 1, 2
1 alternate drawing of the same symbol

## R_0603-220 Ом-1%-YAGEO
designator R?, comment value 220  (hidden comment: Резистор чип 0603-0,1 Вт-220 Ом ±1% фирма "YAGEO")
чип 0603-0,1 Вт-220 Ом ±1% фирма "YAGEO"; Power: 0,1 Вт; Tol: ± 1%; Manufacturer: фирма "YAGEO"; Name: Резистор; TYP: чип 0603; GOST: Резистор чип 0603-0,1 Вт-220 Ом ±1% фирма "YAGEO"
footprint R0603_H05M (Dim 1.6mm*0.8mm H=0.45mm)
pins: 1, 2
1 alternate drawing of the same symbol

## R_0603-221 кОм-1%-YAGEO
designator R?, comment value 221 к  (hidden comment: Резистор чип 0603-0,1 Вт-221 кОм ±1% фирма "YAGEO")
чип 0603-0,1 Вт-221 кОм ±1% фирма "YAGEO"; Power: 0,1 Вт; Tol: ± 1%; Manufacturer: фирма "YAGEO"; Name: Резистор; TYP: чип 0603; GOST: Резистор чип 0603-0,1 Вт-221 кОм ±1% фирма "YAGEO"
footprint R0603_H05M (Dim 1.6mm*0.8mm H=0.45mm)
pins: 1, 2
1 alternate drawing of the same symbol

## R_0603-226 кОм-1%-YAGEO
designator R?, comment value 226 к  (hidden comment: Резистор чип 0603-0,1 Вт-226 кОм ±1% фирма "YAGEO")
чип 0603-0,1 Вт-226 кОм ±1% фирма "YAGEO"; Power: 0,1 Вт; Tol: ± 1%; Manufacturer: фирма "YAGEO"; Name: Резистор; TYP: чип 0603; GOST: Резистор чип 0603-0,1 Вт-226 кОм ±1% фирма "YAGEO"
footprint R0603_H05M (Dim 1.6mm*0.8mm H=0.45mm)
pins: 1, 2
1 alternate drawing of the same symbol

## R_0603-240 кОм-1%-YAGEO
designator R?, comment value 240 к  (hidden comment: Резистор чип 0603-0,1 Вт-240 кОм ±1% фирма "YAGEO")
чип 0603-0,1 Вт-240 кОм ±1% фирма "YAGEO"; Power: 0,1 Вт; Tol: ± 1%; Manufacturer: фирма "YAGEO"; Name: Резистор; TYP: чип 0603; GOST: Резистор чип 0603-0,1 Вт-240 кОм ±1% фирма "YAGEO"
footprint R0603_H05M (Dim 1.6mm*0.8mm H=0.45mm)
pins: 1, 2
1 alternate drawing of the same symbol

## R_0603-240 Ом-1%-YAGEO
designator R?, comment value 240  (hidden comment: Резистор чип 0603-0,1 Вт-240 Ом ±1% фирма "YAGEO")
чип 0603-0,1 Вт-240 Ом ±1% фирма "YAGEO"; Power: 0,1 Вт; Tol: ± 1%; Manufacturer: фирма "YAGEO"; Name: Резистор; TYP: чип 0603; GOST: Резистор чип 0603-0,1 Вт-240 Ом ±1% фирма "YAGEO"
footprint R0603_H05M (Dim 1.6mm*0.8mm H=0.45mm)
pins: 1, 2
1 alternate drawing of the same symbol

## R_0603-243 Ом-1%-YAGEO
designator R?, comment value 243  (hidden comment: Резистор чип 0603-0,1 Вт-243 Ом ±1% фирма "YAGEO")
чип 0603-0,1 Вт-243 Ом ±1% фирма "YAGEO"; Power: 0,1 Вт; Tol: ± 1%; Manufacturer: фирма "YAGEO"; Name: Резистор; TYP: чип 0603; GOST: Резистор чип 0603-0,1 Вт-243 Ом ±1% фирма "YAGEO"
footprint R0603_H05M (Dim 1.6mm*0.8mm H=0.45mm)
pins: 1, 2
1 alternate drawing of the same symbol

## R_0603-255 кОм-1%-YAGEO
designator R?, comment value 255 к  (hidden comment: Резистор чип 0603-0,1 Вт-255 кОм ±1% фирма "YAGEO")
чип 0603-0,1 Вт-255 кОм ±1% фирма "YAGEO"; Power: 0,1 Вт; Tol: ± 1%; Manufacturer: фирма "YAGEO"; Name: Резистор; TYP: чип 0603; GOST: Резистор чип 0603-0,1 Вт-255 кОм ±1% фирма "YAGEO"
footprint R0603_H05M (Dim 1.6mm*0.8mm H=0.45mm)
pins: 1, 2
1 alternate drawing of the same symbol

## R_0603-261 кОм-1%-YAGEO
designator R?, comment value 261 к  (hidden comment: Резистор чип 0603-0,1 Вт-261 кОм ±1% фирма "YAGEO")
чип 0603-0,1 Вт-261 кОм ±1% фирма "YAGEO"; Power: 0,1 Вт; Tol: ± 1%; Manufacturer: фирма "YAGEO"; Name: Резистор; TYP: чип 0603; GOST: Резистор чип 0603-0,1 Вт-261 кОм ±1% фирма "YAGEO"
footprint R0603_H05M (Dim 1.6mm*0.8mm H=0.45mm)
pins: 1, 2
1 alternate drawing of the same symbol

## R_0603-261 Ом-1%-YAGEO
designator R?, comment value 261  (hidden comment: Резистор чип 0603-0,1 Вт-261 Ом ±1% фирма "YAGEO")
чип 0603-0,1 Вт-261 Ом ±1% фирма "YAGEO"; Power: 0,1 Вт; Tol: ± 1%; Manufacturer: фирма "YAGEO"; Name: Резистор; TYP: чип 0603; GOST: Резистор чип 0603-0,1 Вт-261 Ом ±1% фирма "YAGEO"
footprint R0603_H05M (Dim 1.6mm*0.8mm H=0.45mm)
pins: 1, 2
1 alternate drawing of the same symbol

## R_0603-265 кОм-1%-YAGEO
designator R?, comment value 265 к  (hidden comment: Резистор чип 0603-0,1 Вт-265 кОм ±1% фирма "YAGEO")
чип 0603-0,1 Вт-265 кОм ±1% фирма "YAGEO"; Power: 0,1 Вт; Tol: ± 1%; Manufacturer: фирма "YAGEO"; Name: Резистор; TYP: чип 0603; GOST: Резистор чип 0603-0,1 Вт-265 кОм ±1% фирма "YAGEO"
footprint R0603_H05M (Dim 1.6mm*0.8mm H=0.45mm)
pins: 1, 2
1 alternate drawing of the same symbol

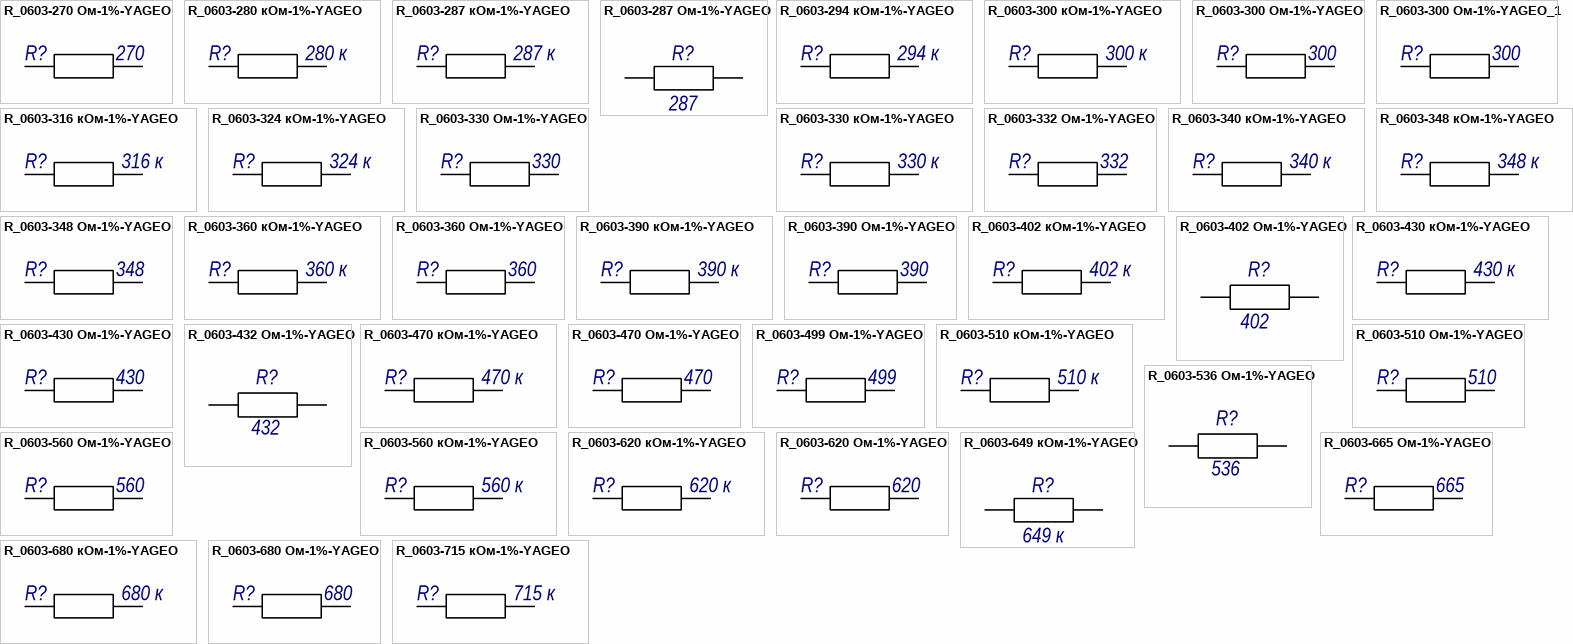
[diagram p5: symbols R_0603-270 Ом-1%-YAGEO to R_0603-715 кОм-1%-YAGEO]

## R_0603-270 Ом-1%-YAGEO
designator R?, comment value 270  (hidden comment: Резистор чип 0603-0,1 Вт-270 Ом ±1% фирма "YAGEO")
чип 0603-0,1 Вт-270 Ом ±1% фирма "YAGEO"; Power: 0,1 Вт; Tol: ± 1%; Manufacturer: фирма "YAGEO"; Name: Резистор; TYP: чип 0603; GOST: Резистор чип 0603-0,1 Вт-270 Ом ±1% фирма "YAGEO"
footprint R0603_H05M (Dim 1.6mm*0.8mm H=0.45mm)
pins: 1, 2
1 alternate drawing of the same symbol

## R_0603-280 кОм-1%-YAGEO
designator R?, comment value 280 к  (hidden comment: Резистор чип 0603-0,1 Вт-280 кОм ±1% фирма "YAGEO")
чип 0603-0,1 Вт-280 кОм ±1% фирма "YAGEO"; Power: 0,1 Вт; Tol: ± 1%; Manufacturer: фирма "YAGEO"; Name: Резистор; TYP: чип 0603; GOST: Резистор чип 0603-0,1 Вт-280 кОм ±1% фирма "YAGEO"
footprint R0603_H05M (Dim 1.6mm*0.8mm H=0.45mm)
pins: 1, 2
1 alternate drawing of the same symbol

## R_0603-287 кОм-1%-YAGEO
designator R?, comment value 287 к  (hidden comment: Резистор чип 0603-0,1 Вт-287 кОм ±1% фирма "YAGEO")
чип 0603-0,1 Вт-287 кОм ±1% фирма "YAGEO"; Power: 0,1 Вт; Tol: ± 1%; Manufacturer: фирма "YAGEO"; Name: Резистор; TYP: чип 0603; GOST: Резистор чип 0603-0,1 Вт-287 кОм ±1% фирма "YAGEO"
footprint R0603_H05M (Dim 1.6mm*0.8mm H=0.45mm)
pins: 1, 2
1 alternate drawing of the same symbol

## R_0603-287 Ом-1%-YAGEO
designator R?, comment value 287  (hidden comment: Резистор чип 0603-0,1 Вт-287 Ом ±1% фирма "YAGEO")
чип 0603-0,1 Вт-287 Ом ±1% фирма "YAGEO"; Power: 0,1 Вт; Tol: ± 1%; Manufacturer: фирма "YAGEO"; Name: Резистор; TYP: чип 0603; GOST: Резистор чип 0603-0,1 Вт-287 Ом ±1% фирма "YAGEO"
footprint R0603_H05M (Dim 1.6mm*0.8mm H=0.45mm)
pins: 1, 2
1 alternate drawing of the same symbol

## R_0603-294 кОм-1%-YAGEO
designator R?, comment value 294 к  (hidden comment: Резистор чип 0603-0,1 Вт-294 кОм ±1% фирма "YAGEO")
чип 0603-0,1 Вт-294 кОм ±1% фирма "YAGEO"; Power: 0,1 Вт; Tol: ± 1%; Manufacturer: фирма "YAGEO"; Name: Резистор; TYP: чип 0603; GOST: Резистор чип 0603-0,1 Вт-294 кОм ±1% фирма "YAGEO"
footprint R0603_H05M (Dim 1.6mm*0.8mm H=0.45mm)
pins: 1, 2
1 alternate drawing of the same symbol

## R_0603-300 кОм-1%-YAGEO
designator R?, comment value 300 к  (hidden comment: Резистор чип 0603-0,1 Вт-300 кОм ±1% фирма "YAGEO")
чип 0603-0,1 Вт-300 кОм ±1% фирма "YAGEO"; Power: 0,1 Вт; Tol: ± 1%; Manufacturer: фирма "YAGEO"; Name: Резистор; TYP: чип 0603; GOST: Резистор чип 0603-0,1 Вт-300 кОм ±1% фирма "YAGEO"
footprint R0603_H05M (Dim 1.6mm*0.8mm H=0.45mm)
pins: 1, 2
1 alternate drawing of the same symbol

## R_0603-300 Ом-1%-YAGEO
designator R?, comment value 300  (hidden comment: Резистор чип 0603-0,1 Вт-300 Ом ±1% фирма "YAGEO")
чип 0603-0,1 Вт-300 Ом ±1% фирма "YAGEO"; Power: 0,1 Вт; Tol: ± 1%; Manufacturer: фирма "YAGEO"; Name: Резистор; TYP: чип 0603; GOST: Резистор чип 0603-0,1 Вт-300 Ом ±1% фирма "YAGEO"
footprint R0603_H05M (Dim 1.6mm*0.8mm H=0.45mm)
pins: 1, 2
1 alternate drawing of the same symbol

## R_0603-300 Ом-1%-YAGEO_1
designator R?, comment value 300  (hidden comment: Резистор чип 0603-0,1 Вт-300 Ом ±1% фирма "YAGEO")
чип 0603-0,1 Вт-300 Ом ±1% фирма "YAGEO"; Power: 0,1 Вт; Tol: ± 1%; Manufacturer: фирма "YAGEO"; Name: Резистор; TYP: чип 0603; GOST: Резистор чип 0603-0,1 Вт-300 Ом ±1% фирма "YAGEO"
footprint R0603_H05M (Dim 1.6mm*0.8mm H=0.45mm)
pins: 1, 2
1 alternate drawing of the same symbol

## R_0603-316 кОм-1%-YAGEO
designator R?, comment value 316 к  (hidden comment: Резистор чип 0603-0,1 Вт-316 кОм ±1% фирма "YAGEO")
чип 0603-0,1 Вт-316 кОм ±1% фирма "YAGEO"; PartNumber: RC0603FR-07316KL; Power: 0,1 Вт; Tol: ± 1%; Manufacturer: фирма "YAGEO"; Name: Резистор; TYP: чип 0603; GOST: Резистор чип 0603-0,1 Вт-316 кОм ±1% фирма "YAGEO"
footprint R0603_H05M (Dim 1.6mm*0.8mm H=0.45mm)
pins: 1, 2
1 alternate drawing of the same symbol

## R_0603-324 кОм-1%-YAGEO
designator R?, comment value 324 к  (hidden comment: Резистор чип 0603-0,1 Вт-324 кОм ±1% фирма "YAGEO")
чип 0603-0,1 Вт-324 кОм ±1% фирма "YAGEO"; Power: 0,1 Вт; Tol: ± 1%; Manufacturer: фирма "YAGEO"; Name: Резистор; TYP: чип 0603; GOST: Резистор чип 0603-0,1 Вт-324 кОм ±1% фирма "YAGEO"
footprint R0603_H05M (Dim 1.6mm*0.8mm H=0.45mm)
pins: 1, 2
1 alternate drawing of the same symbol

## R_0603-330 кОм-1%-YAGEO
designator R?, comment value 330 к  (hidden comment: Резистор чип 0603-0,1 Вт-330 кОм ±1% фирма "YAGEO")
чип 0603-0,1 Вт-330 кОм ±1% фирма "YAGEO"; Power: 0,1 Вт; Tol: ± 1%; Manufacturer: фирма "YAGEO"; Name: Резистор; TYP: чип 0603; GOST: Резистор чип 0603-0,1 Вт-330 кОм ±1% фирма "YAGEO"
footprint R0603_H05M (Dim 1.6mm*0.8mm H=0.45mm)
pins: 1, 2
1 alternate drawing of the same symbol

## R_0603-330 Ом-1%-YAGEO
designator R?, comment value 330  (hidden comment: Резистор чип 0603-0,1 Вт-330 Ом ±1% фирма "YAGEO")
чип 0603-0,1 Вт-330 Ом ±1% фирма "YAGEO"; Power: 0,1 Вт; Tol: ± 1%; Manufacturer: фирма "YAGEO"; Name: Резистор; TYP: чип 0603; GOST: Резистор чип 0603-0,1 Вт-330 Ом ±1% фирма "YAGEO"
footprint R0603_H05M (Dim 1.6mm*0.8mm H=0.45mm)
pins: 1, 2
1 alternate drawing of the same symbol

## R_0603-332 Ом-1%-YAGEO
designator R?, comment value 332  (hidden comment: Резистор чип 0603-0,1 Вт-332 Ом ±1% фирма "YAGEO")
чип 0603-0,1 Вт-332 Ом ±1% фирма "YAGEO"; Power: 0,1 Вт; Tol: ± 1%; Manufacturer: фирма "YAGEO"; Name: Резистор; TYP: чип 0603; GOST: Резистор чип 0603-0,1 Вт-332 Ом ±1% фирма "YAGEO"
footprint R0603_H05M (Dim 1.6mm*0.8mm H=0.45mm)
pins: 1, 2
1 alternate drawing of the same symbol

## R_0603-340 кОм-1%-YAGEO
designator R?, comment value 340 к  (hidden comment: Резистор чип 0603-0,1 Вт-340 кОм ±1% фирма "YAGEO")
чип 0603-0,1 Вт-340 кОм ±1% фирма "YAGEO"; Power: 0,1 Вт; Tol: ± 1%; Manufacturer: фирма "YAGEO"; Name: Резистор; TYP: чип 0603; GOST: Резистор чип 0603-0,1 Вт-340 кОм ±1% фирма "YAGEO"
footprint R0603_H05M (Dim 1.6mm*0.8mm H=0.45mm)
pins: 1, 2
1 alternate drawing of the same symbol

## R_0603-348 кОм-1%-YAGEO
designator R?, comment value 348 к  (hidden comment: Резистор чип 0603-0,1 Вт-348 кОм ±1% фирма "YAGEO")
чип 0603-0,1 Вт-348 кОм ±1% фирма "YAGEO"; Power: 0,1 Вт; Tol: ± 1%; Manufacturer: фирма "YAGEO"; Name: Резистор; TYP: чип 0603; GOST: Резистор чип 0603-0,1 Вт-348 кОм ±1% фирма "YAGEO"
footprint R0603_H05M (Dim 1.6mm*0.8mm H=0.45mm)
pins: 1, 2
1 alternate drawing of the same symbol

## R_0603-348 Ом-1%-YAGEO
designator R?, comment value 348  (hidden comment: Резистор чип 0603-0,1 Вт-348 Ом ±1% фирма "YAGEO")
чип 0603-0,1 Вт-348 Ом ±1% фирма "YAGEO"; Power: 0,1 Вт; Tol: ± 1%; Manufacturer: фирма "YAGEO"; Name: Резистор; TYP: чип 0603; GOST: Резистор чип 0603-0,1 Вт-348 Ом ±1% фирма "YAGEO"
footprint R0603_H05M (Dim 1.6mm*0.8mm H=0.45mm)
pins: 1, 2
1 alternate drawing of the same symbol

## R_0603-360 кОм-1%-YAGEO
designator R?, comment value 360 к  (hidden comment: Резистор чип 0603-0,1 Вт-360 кОм ±1% фирма "YAGEO")
чип 0603-0,1 Вт-360 кОм ±1% фирма "YAGEO"; Power: 0,1 Вт; Tol: ± 1%; Manufacturer: фирма "YAGEO"; Name: Резистор; TYP: чип 0603; GOST: Резистор чип 0603-0,1 Вт-360 кОм ±1% фирма "YAGEO"
footprint R0603_H05M (Dim 1.6mm*0.8mm H=0.45mm)
pins: 1, 2
1 alternate drawing of the same symbol

## R_0603-360 Ом-1%-YAGEO
designator R?, comment value 360  (hidden comment: Резистор чип 0603-0,1 Вт-360 Ом ±1% фирма "YAGEO")
чип 0603-0,1 Вт-360 Ом ±1% фирма "YAGEO"; Power: 0,1 Вт; Tol: ± 1%; Manufacturer: фирма "YAGEO"; Name: Резистор; TYP: чип 0603; GOST: Резистор чип 0603-0,1 Вт-360 Ом ±1% фирма "YAGEO"
footprint R0603_H05M (Dim 1.6mm*0.8mm H=0.45mm)
pins: 1, 2
1 alternate drawing of the same symbol

## R_0603-390 кОм-1%-YAGEO
designator R?, comment value 390 к  (hidden comment: Резистор чип 0603-0,1 Вт-390 кОм ±1% фирма "YAGEO")
чип 0603-0,1 Вт-390 кОм ±1% фирма "YAGEO"; Power: 0,1 Вт; Tol: ± 1%; Manufacturer: фирма "YAGEO"; Name: Резистор; TYP: чип 0603; GOST: Резистор чип 0603-0,1 Вт-390 кОм ±1% фирма "YAGEO"
footprint R0603_H05M (Dim 1.6mm*0.8mm H=0.45mm)
pins: 1, 2
1 alternate drawing of the same symbol

## R_0603-390 Ом-1%-YAGEO
designator R?, comment value 390  (hidden comment: Резистор чип 0603-0,1 Вт-390 Ом ±1% фирма "YAGEO")
чип 0603-0,1 Вт-390 Ом ±1% фирма "YAGEO"; Power: 0,1 Вт; Tol: ± 1%; Manufacturer: фирма "YAGEO"; Name: Резистор; TYP: чип 0603; GOST: Резистор чип 0603-0,1 Вт-390 Ом ±1% фирма "YAGEO"
footprint R0603_H05M (Dim 1.6mm*0.8mm H=0.45mm)
pins: 1, 2
1 alternate drawing of the same symbol

## R_0603-402 кОм-1%-YAGEO
designator R?, comment value 402 к  (hidden comment: Резистор чип 0603-0,1 Вт-402 кОм ±1% фирма "YAGEO")
чип 0603-0,1 Вт-402 кОм ±1% фирма "YAGEO"; Power: 0,1 Вт; Tol: ± 1%; Manufacturer: фирма "YAGEO"; Name: Резистор; TYP: чип 0603; GOST: Резистор чип 0603-0,1 Вт-402 кОм ±1% фирма "YAGEO"
footprint R0603_H05M (Dim 1.6mm*0.8mm H=0.45mm)
pins: 1, 2
1 alternate drawing of the same symbol

## R_0603-402 Ом-1%-YAGEO
designator R?, comment value 402  (hidden comment: Резистор чип 0603-0,1 Вт-402 Ом ±1% фирма "YAGEO")
чип 0603-0,1 Вт-402 Ом ±1% фирма "YAGEO"; Power: 0,1 Вт; Tol: ± 1%; Manufacturer: фирма "YAGEO"; Name: Резистор; TYP: чип 0603; GOST: Резистор чип 0603-0,1 Вт-402 Ом ±1% фирма "YAGEO"
footprint R0603_H05M (Dim 1.6mm*0.8mm H=0.45mm)
pins: 1, 2
1 alternate drawing of the same symbol

## R_0603-430 кОм-1%-YAGEO
designator R?, comment value 430 к  (hidden comment: Резистор чип 0603-0,1 Вт-430 кОм ±1% фирма "YAGEO")
чип 0603-0,1 Вт-430 кОм ±1% фирма "YAGEO"; Power: 0,1 Вт; Tol: ± 1%; Manufacturer: фирма "YAGEO"; Name: Резистор; TYP: чип 0603; GOST: Резистор чип 0603-0,1 Вт-430 кОм ±1% фирма "YAGEO"
footprint R0603_H05M (Dim 1.6mm*0.8mm H=0.45mm)
pins: 1, 2
1 alternate drawing of the same symbol

## R_0603-430 Ом-1%-YAGEO
designator R?, comment value 430  (hidden comment: Резистор чип 0603-0,1 Вт-430 Ом ±1% фирма "YAGEO")
чип 0603-0,1 Вт-430 Ом ±1% фирма "YAGEO"; Power: 0,1 Вт; Tol: ± 1%; Manufacturer: фирма "YAGEO"; Name: Резистор; TYP: чип 0603; GOST: Резистор чип 0603-0,1 Вт-430 Ом ±1% фирма "YAGEO"
footprint R0603_H05M (Dim 1.6mm*0.8mm H=0.45mm)
pins: 1, 2
1 alternate drawing of the same symbol

## R_0603-432 Ом-1%-YAGEO
designator R?, comment value 432  (hidden comment: Резистор чип 0603-0,1 Вт-432 Ом ±1% фирма "YAGEO")
чип 0603-0,1 Вт-432 Ом ±1% фирма "YAGEO"; Power: 0,1 Вт; Tol: ± 1%; Manufacturer: фирма "YAGEO"; Name: Резистор; TYP: чип 0603; GOST: Резистор чип 0603-0,1 Вт-432 Ом ±1% фирма "YAGEO"
footprint R0603_H05M (Dim 1.6mm*0.8mm H=0.45mm)
pins: 1, 2
1 alternate drawing of the same symbol

## R_0603-470 кОм-1%-YAGEO
designator R?, comment value 470 к  (hidden comment: Резистор чип 0603-0,1 Вт-470 кОм ±1% фирма "YAGEO")
чип 0603-0,1 Вт-470 кОм ±1% фирма "YAGEO"; Power: 0,1 Вт; Tol: ± 1%; Manufacturer: фирма "YAGEO"; Name: Резистор; TYP: чип 0603; GOST: Резистор чип 0603-0,1 Вт-470 кОм ±1% фирма "YAGEO"
footprint R0603_H05M (Dim 1.6mm*0.8mm H=0.45mm)
pins: 1, 2
1 alternate drawing of the same symbol

## R_0603-470 Ом-1%-YAGEO
designator R?, comment value 470  (hidden comment: Резистор чип 0603-0,1 Вт-470 Ом ±1% фирма "YAGEO")
чип 0603-0,1 Вт-470 Ом ±1% фирма "YAGEO"; Power: 0,1 Вт; Tol: ± 1%; Manufacturer: фирма "YAGEO"; Name: Резистор; TYP: чип 0603; GOST: Резистор чип 0603-0,1 Вт-470 Ом ±1% фирма "YAGEO"
footprint R0603_H05M (Dim 1.6mm*0.8mm H=0.45mm)
pins: 1, 2
1 alternate drawing of the same symbol

## R_0603-499 Ом-1%-YAGEO
designator R?, comment value 499  (hidden comment: Резистор чип 0603-0,1 Вт-499 Ом ±1% фирма "YAGEO")
чип 0603-0,1 Вт-499 Ом ±1% фирма "YAGEO"; Power: 0,1 Вт; Tol: ± 1%; Manufacturer: фирма "YAGEO"; Name: Резистор; TYP: чип 0603; GOST: Резистор чип 0603-0,1 Вт-499 Ом ±1% фирма "YAGEO"
footprint R0603_H05M (Dim 1.6mm*0.8mm H=0.45mm)
pins: 1, 2
1 alternate drawing of the same symbol

## R_0603-510 кОм-1%-YAGEO
designator R?, comment value 510 к  (hidden comment: Резистор чип 0603-0,1 Вт-510 кОм ±1% фирма "YAGEO")
чип 0603-0,1 Вт-510 кОм ±1% фирма "YAGEO"; Power: 0,1 Вт; Tol: ± 1%; Manufacturer: фирма "YAGEO"; Name: Резистор; TYP: чип 0603; GOST: Резистор чип 0603-0,1 Вт-510 кОм ±1% фирма "YAGEO"
footprint R0603_H05M (Dim 1.6mm*0.8mm H=0.45mm)
pins: 1, 2
1 alternate drawing of the same symbol

## R_0603-510 Ом-1%-YAGEO
designator R?, comment value 510  (hidden comment: Резистор чип 0603-0,1 Вт-510 Ом ±1% фирма "YAGEO")
чип 0603-0,1 Вт-510 Ом ±1% фирма "YAGEO"; Power: 0,1 Вт; Tol: ± 1%; Manufacturer: фирма "YAGEO"; Name: Резистор; TYP: чип 0603; GOST: Резистор чип 0603-0,1 Вт-510 Ом ±1% фирма "YAGEO"
footprint R0603_H05M (Dim 1.6mm*0.8mm H=0.45mm)
pins: 1, 2
1 alternate drawing of the same symbol

## R_0603-536 Ом-1%-YAGEO
designator R?, comment value 536  (hidden comment: Резистор чип 0603-0,1 Вт-536 Ом ±1% фирма "YAGEO")
чип 0603-0,1 Вт-536 Ом ±1% фирма "YAGEO"; Power: 0,1 Вт; Tol: ± 1%; Manufacturer: фирма "YAGEO"; Name: Резистор; TYP: чип 0603; GOST: Резистор чип 0603-0,1 Вт-536 Ом ±1% фирма "YAGEO"
footprint R0603_H05M (Dim 1.6mm*0.8mm H=0.45mm)
pins: 1, 2
1 alternate drawing of the same symbol

## R_0603-560 кОм-1%-YAGEO
designator R?, comment value 560 к  (hidden comment: Резистор чип 0603-0,1 Вт-560 кОм ±1% фирма "YAGEO")
чип 0603-0,1 Вт-560 кОм ±1% фирма "YAGEO"; Power: 0,1 Вт; Tol: ± 1%; Manufacturer: фирма "YAGEO"; Name: Резистор; TYP: чип 0603; GOST: Резистор чип 0603-0,1 Вт-560 кОм ±1% фирма "YAGEO"
footprint R0603_H05M (Dim 1.6mm*0.8mm H=0.45mm)
pins: 1, 2
1 alternate drawing of the same symbol

## R_0603-560 Ом-1%-YAGEO
designator R?, comment value 560  (hidden comment: Резистор чип 0603-0,1 Вт-560 Ом ±1% фирма "YAGEO")
чип 0603-0,1 Вт-560 Ом ±1% фирма "YAGEO"; Power: 0,1 Вт; Tol: ± 1%; Manufacturer: фирма "YAGEO"; Name: Резистор; TYP: чип 0603; GOST: Резистор чип 0603-0,1 Вт-560 Ом ±1% фирма "YAGEO"
footprint R0603_H05M (Dim 1.6mm*0.8mm H=0.45mm)
pins: 1, 2
1 alternate drawing of the same symbol

## R_0603-620 кОм-1%-YAGEO
designator R?, comment value 620 к  (hidden comment: Резистор чип 0603-0,1 Вт-620 кОм ±1% фирма "YAGEO")
чип 0603-0,1 Вт-620 кОм ±1% фирма "YAGEO"; Power: 0,1 Вт; Tol: ± 1%; Manufacturer: фирма "YAGEO"; Name: Резистор; TYP: чип 0603; GOST: Резистор чип 0603-0,1 Вт-620 кОм ±1% фирма "YAGEO"
footprint R0603_H05M (Dim 1.6mm*0.8mm H=0.45mm)
pins: 1, 2
1 alternate drawing of the same symbol

## R_0603-620 Ом-1%-YAGEO
designator R?, comment value 620  (hidden comment: Резистор чип 0603-0,1 Вт-620 Ом ±1% фирма "YAGEO")
чип 0603-0,1 Вт-620 Ом ±1% фирма "YAGEO"; Power: 0,1 Вт; Tol: ± 1%; Manufacturer: фирма "YAGEO"; Name: Резистор; TYP: чип 0603; GOST: Резистор чип 0603-0,1 Вт-620 Ом ±1% фирма "YAGEO"
footprint R0603_H05M (Dim 1.6mm*0.8mm H=0.45mm)
pins: 1, 2
1 alternate drawing of the same symbol

## R_0603-649 кОм-1%-YAGEO
designator R?, comment value 649 к  (hidden comment: Резистор чип 0603-0,1 Вт-649 кОм ±1% фирма "YAGEO")
чип 0603-0,1 Вт-649 кОм ±1% фирма "YAGEO"; Power: 0,1 Вт; Tol: ± 1%; Manufacturer: фирма "YAGEO"; Name: Резистор; TYP: чип 0603; GOST: Резистор чип 0603-0,1 Вт-649 кОм ±1% фирма "YAGEO"
footprint R0603_H05M (Dim 1.6mm*0.8mm H=0.45mm)
pins: 1, 2
1 alternate drawing of the same symbol

## R_0603-665 Ом-1%-YAGEO
designator R?, comment value 665  (hidden comment: Резистор чип 0603-0,1 Вт-665 Ом ±1% фирма "YAGEO")
чип 0603-0,1 Вт-665 Ом ±1% фирма "YAGEO"; Power: 0,1 Вт; Tol: ± 1%; Manufacturer: фирма "YAGEO"; Name: Резистор; TYP: чип 0603; GOST: Резистор чип 0603-0,1 Вт-665 Ом ±1% фирма "YAGEO"
footprint R0603_H05M (Dim 1.6mm*0.8mm H=0.45mm)
pins: 1, 2
1 alternate drawing of the same symbol

## R_0603-680 кОм-1%-YAGEO
designator R?, comment value 680 к  (hidden comment: Резистор чип 0603-0,1 Вт-680 кОм ±1% фирма "YAGEO")
чип 0603-0,1 Вт-680 кОм ±1% фирма "YAGEO"; Power: 0,1 Вт; Tol: ± 1%; Manufacturer: фирма "YAGEO"; Name: Резистор; TYP: чип 0603; GOST: Резистор чип 0603-0,1 Вт-680 кОм ±1% фирма "YAGEO"
footprint R0603_H05M (Dim 1.6mm*0.8mm H=0.45mm)
pins: 1, 2
1 alternate drawing of the same symbol

## R_0603-680 Ом-1%-YAGEO
designator R?, comment value 680  (hidden comment: Резистор чип 0603-0,1 Вт-680 Ом ±1% фирма "YAGEO")
чип 0603-0,1 Вт-680 Ом ±1% фирма "YAGEO"; Power: 0,1 Вт; Tol: ± 1%; Manufacturer: фирма "YAGEO"; Name: Резистор; TYP: чип 0603; GOST: Резистор чип 0603-0,1 Вт-680 Ом ±1% фирма "YAGEO"
footprint R0603_H05M (Dim 1.6mm*0.8mm H=0.45mm)
pins: 1, 2
1 alternate drawing of the same symbol